# Altium footprint library Battery_Management.PcbLib: 6 footprints
Each footprint in its own frame and in the unit in brackets; x right, y up, seen from the top. Pads: shape width x height; smd on the part's side, far side on the other; paste and mask are expansions set on the pad; w line width, h text height; cw(c..) or ccw(c..) is an arc to the next point about the centre after c.
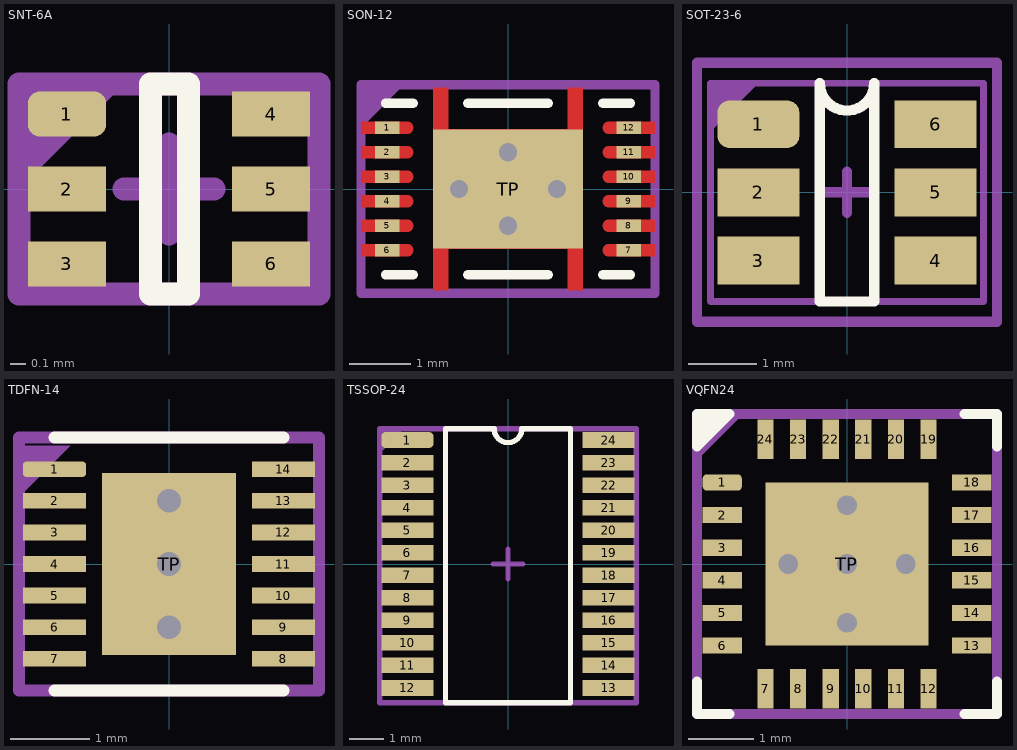
[diagram p0: the footprints below, top view; thin cyan lines are the x and y axes]

## SNT-6A [mm]
pads (6):
  rrect50% 0.52x0.3 smd mask+0.05: 1(-0.68,0.5)
  rect 0.52x0.3 smd mask+0.05: 2(-0.68,0) 3(-0.68,-0.5) 4(0.68,0.5) 5(0.68,0) 6(0.68,-0.5)
Top Overlay:
  lines w0.153: -0.124,-0.7 -0.124,0.7 0.13,0.7 0.13,-0.7 -0.124,-0.7
Top Assembly:
  region: -1,0.7 -0.3,0.7 -1,0
  lines w0.1: -1,-0.7 -1,0.7 1,0.7 1,-0.7 -1,-0.7
  text "'.Designator'" at -4.532,-0.333 h0.8
Top Courtyard (Mech6):
  lines w0.153: -0.3,0 0.3,0 ; 0,-0.3 0,0.3 ; -1,-0.7 -1,0.7 1,0.7 1,-0.7 -1,-0.7
3D body "User Library-VMT6.STEP": height 0.53, standoff -0.02, extent -0.6,-0.6 0.6,0.6

## SON-12 [mm]
pads (13):
  rect 0.4x0.2 smd paste-1 mask+0: 1(-1.975,1) 2(-1.975,0.6) 3(-1.975,0.2) 4(-1.975,-0.2) 5(-1.975,-0.6) 6(-1.975,-1) 7(1.975,-1) 8(1.975,-0.6) 9(1.975,-0.2) 10(1.975,0.2) 11(1.975,0.6) 12(1.975,1)
  rect 2.45x1.95 smd paste-2 mask+0: TP(0,0)
via 0,0.6 diameter 0.65 hole 0.3
via 0.8,0 diameter 0.65 hole 0.3
via 0,-0.6 diameter 0.65 hole 0.3
via -0.8,0 diameter 0.65 hole 0.3
Top Layer:
  region: -1.645,-0.5 -1.64,-0.501 -1.634,-0.501 -1.629,-0.502 -1.624,-0.503 -1.619,-0.505 -1.614,-0.507 -1.609,-0.509 -1.605,-0.511 -1.6,-0.513 -1.596,-0.516 -1.591,-0.519 -1.587,-0.522 -1.583,-0.526 -1.579,-0.529 -1.576,-0.533 -1.572,-0.537 -1.569,-0.541 -1.566,-0.546 -1.563,-0.55 -1.561,-0.555 -1.559,-0.559 -1.557,-0.564 -1.555,-0.569 -1.553,-0.574 -1.552,-0.579 -1.551,-0.584 -1.551,-0.59 -1.55,-0.595 -1.55,-0.6 -1.55,-0.605 -1.551,-0.61 -1.551,-0.616 -1.552,-0.621 -1.553,-0.626 -1.555,-0.631 -1.557,-0.636 -1.559,-0.641 -1.561,-0.645 -1.563,-0.65 -1.566,-0.654 -1.569,-0.659 -1.572,-0.663 -1.576,-0.667 -1.579,-0.671 -1.583,-0.674 -1.587,-0.678 -1.591,-0.681 -1.596,-0.684 -1.6,-0.687 -1.605,-0.689 -1.609,-0.691 -1.614,-0.693 -1.619,-0.695 -1.624,-0.697 -1.629,-0.698 -1.634,-0.699 -1.64,-0.699 -1.645,-0.7 -1.65,-0.7 -2.4,-0.7 -2.4,-0.5 -1.65,-0.5
  region: 1.225,-1.65 0.975,-1.65 0.975,-0.975 -0.975,-0.975 -0.975,-1.65 -1.225,-1.65 -1.225,1.65 -0.975,1.65 -0.975,0.975 0.975,0.975 0.975,1.65 1.225,1.65
  region: -1.645,1.1 -1.64,1.099 -1.634,1.099 -1.629,1.098 -1.624,1.097 -1.619,1.095 -1.614,1.093 -1.609,1.091 -1.605,1.089 -1.6,1.087 -1.596,1.084 -1.591,1.081 -1.587,1.078 -1.583,1.074 -1.579,1.071 -1.576,1.067 -1.572,1.063 -1.569,1.059 -1.566,1.054 -1.563,1.05 -1.561,1.045 -1.559,1.041 -1.557,1.036 -1.555,1.031 -1.553,1.026 -1.552,1.021 -1.551,1.016 -1.551,1.01 -1.55,1.005 -1.55,1 -1.55,0.995 -1.551,0.99 -1.551,0.984 -1.552,0.979 -1.553,0.974 -1.555,0.969 -1.557,0.964 -1.559,0.959 -1.561,0.955 -1.563,0.95 -1.566,0.946 -1.569,0.941 -1.572,0.937 -1.576,0.933 -1.579,0.929 -1.583,0.926 -1.587,0.922 -1.591,0.919 -1.596,0.916 -1.6,0.913 -1.605,0.911 -1.609,0.909 -1.614,0.907 -1.619,0.905 -1.624,0.903 -1.629,0.902 -1.634,0.901 -1.64,0.901 -1.645,0.9 -1.65,0.9 -2.4,0.9 -2.4,1.1 -1.65,1.1
  region: -1.645,0.7 -1.64,0.699 -1.634,0.699 -1.629,0.698 -1.624,0.697 -1.619,0.695 -1.614,0.693 -1.609,0.691 -1.605,0.689 -1.6,0.687 -1.596,0.684 -1.591,0.681 -1.587,0.678 -1.583,0.674 -1.579,0.671 -1.576,0.667 -1.572,0.663 -1.569,0.659 -1.566,0.654 -1.563,0.65 -1.561,0.645 -1.559,0.641 -1.557,0.636 -1.555,0.631 -1.553,0.626 -1.552,0.621 -1.551,0.616 -1.551,0.61 -1.55,0.605 -1.55,0.6 -1.55,0.595 -1.551,0.59 -1.551,0.584 -1.552,0.579 -1.553,0.574 -1.555,0.569 -1.557,0.564 -1.559,0.559 -1.561,0.555 -1.563,0.55 -1.566,0.546 -1.569,0.541 -1.572,0.537 -1.576,0.533 -1.579,0.529 -1.583,0.526 -1.587,0.522 -1.591,0.519 -1.596,0.516 -1.6,0.513 -1.605,0.511 -1.609,0.509 -1.614,0.507 -1.619,0.505 -1.624,0.503 -1.629,0.502 -1.634,0.501 -1.64,0.501 -1.645,0.5 -1.65,0.5 -2.4,0.5 -2.4,0.7 -1.65,0.7
  region: -1.645,0.3 -1.64,0.299 -1.634,0.299 -1.629,0.298 -1.624,0.297 -1.619,0.295 -1.614,0.293 -1.609,0.291 -1.605,0.289 -1.6,0.287 -1.596,0.284 -1.591,0.281 -1.587,0.278 -1.583,0.274 -1.579,0.271 -1.576,0.267 -1.572,0.263 -1.569,0.259 -1.566,0.254 -1.563,0.25 -1.561,0.245 -1.559,0.241 -1.557,0.236 -1.555,0.231 -1.553,0.226 -1.552,0.221 -1.551,0.216 -1.551,0.21 -1.55,0.205 -1.55,0.2 -1.55,0.195 -1.551,0.19 -1.551,0.184 -1.552,0.179 -1.553,0.174 -1.555,0.169 -1.557,0.164 -1.559,0.159 -1.561,0.155 -1.563,0.15 -1.566,0.146 -1.569,0.141 -1.572,0.137 -1.576,0.133 -1.579,0.129 -1.583,0.126 -1.587,0.122 -1.591,0.119 -1.596,0.116 -1.6,0.113 -1.605,0.111 -1.609,0.109 -1.614,0.107 -1.619,0.105 -1.624,0.103 -1.629,0.102 -1.634,0.101 -1.64,0.101 -1.645,0.1 -1.65,0.1 -2.4,0.1 -2.4,0.3 -1.65,0.3
  region: -1.645,-0.1 -1.64,-0.101 -1.634,-0.101 -1.629,-0.102 -1.624,-0.103 -1.619,-0.105 -1.614,-0.107 -1.609,-0.109 -1.605,-0.111 -1.6,-0.113 -1.596,-0.116 -1.591,-0.119 -1.587,-0.122 -1.583,-0.126 -1.579,-0.129 -1.576,-0.133 -1.572,-0.137 -1.569,-0.141 -1.566,-0.146 -1.563,-0.15 -1.561,-0.155 -1.559,-0.159 -1.557,-0.164 -1.555,-0.169 -1.553,-0.174 -1.552,-0.179 -1.551,-0.184 -1.551,-0.19 -1.55,-0.195 -1.55,-0.2 -1.55,-0.205 -1.551,-0.21 -1.551,-0.216 -1.552,-0.221 -1.553,-0.226 -1.555,-0.231 -1.557,-0.236 -1.559,-0.241 -1.561,-0.245 -1.563,-0.25 -1.566,-0.254 -1.569,-0.259 -1.572,-0.263 -1.576,-0.267 -1.579,-0.271 -1.583,-0.274 -1.587,-0.278 -1.591,-0.281 -1.596,-0.284 -1.6,-0.287 -1.605,-0.289 -1.609,-0.291 -1.614,-0.293 -1.619,-0.295 -1.624,-0.297 -1.629,-0.298 -1.634,-0.299 -1.64,-0.299 -1.645,-0.3 -1.65,-0.3 -2.4,-0.3 -2.4,-0.1 -1.65,-0.1
  region: -1.645,-0.9 -1.64,-0.901 -1.634,-0.901 -1.629,-0.902 -1.624,-0.903 -1.619,-0.905 -1.614,-0.907 -1.609,-0.909 -1.605,-0.911 -1.6,-0.913 -1.596,-0.916 -1.591,-0.919 -1.587,-0.922 -1.583,-0.926 -1.579,-0.929 -1.576,-0.933 -1.572,-0.937 -1.569,-0.941 -1.566,-0.946 -1.563,-0.95 -1.561,-0.955 -1.559,-0.959 -1.557,-0.964 -1.555,-0.969 -1.553,-0.974 -1.552,-0.979 -1.551,-0.984 -1.551,-0.99 -1.55,-0.995 -1.55,-1 -1.55,-1.005 -1.551,-1.01 -1.551,-1.016 -1.552,-1.021 -1.553,-1.026 -1.555,-1.031 -1.557,-1.036 -1.559,-1.041 -1.561,-1.045 -1.563,-1.05 -1.566,-1.054 -1.569,-1.059 -1.572,-1.063 -1.576,-1.067 -1.579,-1.071 -1.583,-1.074 -1.587,-1.078 -1.591,-1.081 -1.596,-1.084 -1.6,-1.087 -1.605,-1.089 -1.609,-1.091 -1.614,-1.093 -1.619,-1.095 -1.624,-1.097 -1.629,-1.098 -1.634,-1.099 -1.64,-1.099 -1.645,-1.1 -1.65,-1.1 -2.4,-1.1 -2.4,-0.9 -1.65,-0.9
  region: 2.4,-1.1 1.65,-1.1 1.645,-1.1 1.64,-1.099 1.634,-1.099 1.629,-1.098 1.624,-1.097 1.619,-1.095 1.614,-1.093 1.609,-1.091 1.605,-1.089 1.6,-1.087 1.596,-1.084 1.591,-1.081 1.587,-1.078 1.583,-1.074 1.579,-1.071 1.576,-1.067 1.572,-1.063 1.569,-1.059 1.566,-1.054 1.563,-1.05 1.561,-1.045 1.559,-1.041 1.557,-1.036 1.555,-1.031 1.553,-1.026 1.552,-1.021 1.551,-1.016 1.551,-1.01 1.55,-1.005 1.55,-1 1.55,-0.995 1.551,-0.99 1.551,-0.984 1.552,-0.979 1.553,-0.974 1.555,-0.969 1.557,-0.964 1.559,-0.959 1.561,-0.955 1.563,-0.95 1.566,-0.946 1.569,-0.941 1.572,-0.937 1.576,-0.933 1.579,-0.929 1.583,-0.926 1.587,-0.922 1.591,-0.919 1.596,-0.916 1.6,-0.913 1.605,-0.911 1.609,-0.909 1.614,-0.907 1.619,-0.905 1.624,-0.903 1.629,-0.902 1.634,-0.901 1.64,-0.901 1.645,-0.9 1.65,-0.9 2.4,-0.9
  region: 2.4,-0.7 1.65,-0.7 1.645,-0.7 1.64,-0.699 1.634,-0.699 1.629,-0.698 1.624,-0.697 1.619,-0.695 1.614,-0.693 1.609,-0.691 1.605,-0.689 1.6,-0.687 1.596,-0.684 1.591,-0.681 1.587,-0.678 1.583,-0.674 1.579,-0.671 1.576,-0.667 1.572,-0.663 1.569,-0.659 1.566,-0.654 1.563,-0.65 1.561,-0.645 1.559,-0.641 1.557,-0.636 1.555,-0.631 1.553,-0.626 1.552,-0.621 1.551,-0.616 1.551,-0.61 1.55,-0.605 1.55,-0.6 1.55,-0.595 1.551,-0.59 1.551,-0.584 1.552,-0.579 1.553,-0.574 1.555,-0.569 1.557,-0.564 1.559,-0.559 1.561,-0.555 1.563,-0.55 1.566,-0.546 1.569,-0.541 1.572,-0.537 1.576,-0.533 1.579,-0.529 1.583,-0.526 1.587,-0.522 1.591,-0.519 1.596,-0.516 1.6,-0.513 1.605,-0.511 1.609,-0.509 1.614,-0.507 1.619,-0.505 1.624,-0.503 1.629,-0.502 1.634,-0.501 1.64,-0.501 1.645,-0.5 1.65,-0.5 2.4,-0.5
  region: 2.4,-0.3 1.65,-0.3 1.645,-0.3 1.64,-0.299 1.634,-0.299 1.629,-0.298 1.624,-0.297 1.619,-0.295 1.614,-0.293 1.609,-0.291 1.605,-0.289 1.6,-0.287 1.596,-0.284 1.591,-0.281 1.587,-0.278 1.583,-0.274 1.579,-0.271 1.576,-0.267 1.572,-0.263 1.569,-0.259 1.566,-0.254 1.563,-0.25 1.561,-0.245 1.559,-0.241 1.557,-0.236 1.555,-0.231 1.553,-0.226 1.552,-0.221 1.551,-0.216 1.551,-0.21 1.55,-0.205 1.55,-0.2 1.55,-0.195 1.551,-0.19 1.551,-0.184 1.552,-0.179 1.553,-0.174 1.555,-0.169 1.557,-0.164 1.559,-0.159 1.561,-0.155 1.563,-0.15 1.566,-0.146 1.569,-0.141 1.572,-0.137 1.576,-0.133 1.579,-0.129 1.583,-0.126 1.587,-0.122 1.591,-0.119 1.596,-0.116 1.6,-0.113 1.605,-0.111 1.609,-0.109 1.614,-0.107 1.619,-0.105 1.624,-0.103 1.629,-0.102 1.634,-0.101 1.64,-0.101 1.645,-0.1 1.65,-0.1 2.4,-0.1
  region: 2.4,0.1 1.65,0.1 1.645,0.1 1.64,0.101 1.634,0.101 1.629,0.102 1.624,0.103 1.619,0.105 1.614,0.107 1.609,0.109 1.605,0.111 1.6,0.113 1.596,0.116 1.591,0.119 1.587,0.122 1.583,0.126 1.579,0.129 1.576,0.133 1.572,0.137 1.569,0.141 1.566,0.146 1.563,0.15 1.561,0.155 1.559,0.159 1.557,0.164 1.555,0.169 1.553,0.174 1.552,0.179 1.551,0.184 1.551,0.19 1.55,0.195 1.55,0.2 1.55,0.205 1.551,0.21 1.551,0.216 1.552,0.221 1.553,0.226 1.555,0.231 1.557,0.236 1.559,0.241 1.561,0.245 1.563,0.25 1.566,0.254 1.569,0.259 1.572,0.263 1.576,0.267 1.579,0.271 1.583,0.274 1.587,0.278 1.591,0.281 1.596,0.284 1.6,0.287 1.605,0.289 1.609,0.291 1.614,0.293 1.619,0.295 1.624,0.297 1.629,0.298 1.634,0.299 1.64,0.299 1.645,0.3 1.65,0.3 2.4,0.3
  region: 2.4,0.5 1.65,0.5 1.645,0.5 1.64,0.501 1.634,0.501 1.629,0.502 1.624,0.503 1.619,0.505 1.614,0.507 1.609,0.509 1.605,0.511 1.6,0.513 1.596,0.516 1.591,0.519 1.587,0.522 1.583,0.526 1.579,0.529 1.576,0.533 1.572,0.537 1.569,0.541 1.566,0.546 1.563,0.55 1.561,0.555 1.559,0.559 1.557,0.564 1.555,0.569 1.553,0.574 1.552,0.579 1.551,0.584 1.551,0.59 1.55,0.595 1.55,0.6 1.55,0.605 1.551,0.61 1.551,0.616 1.552,0.621 1.553,0.626 1.555,0.631 1.557,0.636 1.559,0.641 1.561,0.645 1.563,0.65 1.566,0.654 1.569,0.659 1.572,0.663 1.576,0.667 1.579,0.671 1.583,0.674 1.587,0.678 1.591,0.681 1.596,0.684 1.6,0.687 1.605,0.689 1.609,0.691 1.614,0.693 1.619,0.695 1.624,0.697 1.629,0.698 1.634,0.699 1.64,0.699 1.645,0.7 1.65,0.7 2.4,0.7
  region: 2.4,0.9 1.65,0.9 1.645,0.9 1.64,0.901 1.634,0.901 1.629,0.902 1.624,0.903 1.619,0.905 1.614,0.907 1.609,0.909 1.605,0.911 1.6,0.913 1.596,0.916 1.591,0.919 1.587,0.922 1.583,0.926 1.579,0.929 1.576,0.933 1.572,0.937 1.569,0.941 1.566,0.946 1.563,0.95 1.561,0.955 1.559,0.959 1.557,0.964 1.555,0.969 1.553,0.974 1.552,0.979 1.551,0.984 1.551,0.99 1.55,0.995 1.55,1 1.55,1.005 1.551,1.01 1.551,1.016 1.552,1.021 1.553,1.026 1.555,1.031 1.557,1.036 1.559,1.041 1.561,1.045 1.563,1.05 1.566,1.054 1.569,1.059 1.572,1.063 1.576,1.067 1.579,1.071 1.583,1.074 1.587,1.078 1.591,1.081 1.596,1.084 1.6,1.087 1.605,1.089 1.609,1.091 1.614,1.093 1.619,1.095 1.624,1.097 1.629,1.098 1.634,1.099 1.64,1.099 1.645,1.1 1.65,1.1 2.4,1.1
Top Overlay:
  lines w0.153: -2,-1.4 -1.545,-1.4 ; -2,1.4 -1.545,1.4 ; -0.655,-1.4 0.655,-1.4 ; -0.655,1.4 0.655,1.4 ; 1.545,-1.4 2,-1.4 ; 1.545,1.4 2,1.4
Top Paste:
  drawing of 22 lines, arcs and shapes, not listed
Top Solder:
  drawing of 13 lines, arcs and shapes, not listed
Top Assembly:
  region: -2.4,1.7 -1.7,1.7 -2.4,1
  lines w0.1: -2.4,-1.7 2.4,-1.7 2.4,1.7 -2.4,1.7 -2.4,-1.7
  text "'.Designator'" at -4.532,-0.333 h0.8
Top Courtyard (Mech6):
  lines w0.153: -0.3,0 0.3,0 ; 0,-0.3 0,0.3 ; -2.4,-1.7 2.4,-1.7 2.4,1.7 -2.4,1.7 -2.4,-1.7
3D body "SON-12-2.step": height 1, standoff -0.05, extent -2.075,-1.3 2.075,1.3

## SOT-23-6 [mm]
pads (6):
  rrect50% 1.2x0.7 smd: 1(-1.3,1)
  rect 1.2x0.7 smd: 2(-1.3,0) 3(-1.3,-1) 4(1.3,-1) 5(1.3,0) 6(1.3,1)
Top Overlay:
  lines w0.153: -0.4,-1.6 -0.4,1.6 ccw(c0,1.6) 0.4,1.6 0.4,-1.6 -0.4,-1.6
Top Assembly:
  region: -2,1.6 -1.3,1.6 -2,0.9
  lines w0.1: -2,-1.6 2,-1.6 2,1.6 -2,1.6 -2,-1.6
  text "'.Designator'" at -4.532,-0.333 h0.8
Top Courtyard (Mech6):
  lines w0.153: -0.3,0 0.3,0 ; 0,-0.3 0,0.3 ; -2.2,-1.9 -2.2,1.9 2.2,1.9 2.2,-1.9 -2.2,-1.9
3D body "6-TSOP.step": height 1.11, standoff 0.01, extent -1.412,-1.55 1.412,1.55

## TDFN-14 [mm]
pads (15):
  rrect50% 0.8x0.2 smd mask+0.05: 1(-1.45,1.2)
  rect 0.8x0.2 smd mask+0.05: 2(-1.45,0.8) 3(-1.45,0.4) 4(-1.45,0) 5(-1.45,-0.4) 6(-1.45,-0.8) 7(-1.45,-1.2) 8(1.45,-1.2) 9(1.45,-0.8) 10(1.45,-0.4) 11(1.45,0) 12(1.45,0.4) 13(1.45,0.8) 14(1.45,1.2)
  rect 1.7x2.3 smd mask+0.05: TP(0,0)
via 0,0 diameter 0.65 hole 0.3
via 0,-0.8 diameter 0.65 hole 0.3
via 0,0.8 diameter 0.65 hole 0.3
Top Overlay:
  lines w0.153: -1.45,-1.6 1.45,-1.6 ; -1.45,1.6 1.45,1.6
Top Assembly:
  region: -1.9,1.5 -1.25,1.5 -1.9,0.85
  lines w0.1: -1.9,-1.6 -1.9,1.6 1.9,1.6 1.9,-1.6 -1.9,-1.6
  text "'.Designator'" at -4.532,-0.333 h0.8
Top Courtyard (Mech6):
  lines w0.153: -0.3,0 0.3,0 ; 0,-0.3 0,0.3 ; -1.9,-1.6 -1.9,1.6 1.9,1.6 1.9,-1.6 -1.9,-1.6
3D body "MAX17205G+.STEP": height 0.77, standoff -0.03, extent -1.5,-1.5 1.5,1.5

## TSSOP-24 [mm]
pads (24):
  rrect50% 1.5x0.45 smd mask+0.05: 1(-2.9,3.575)
  rect 1.5x0.45 smd mask+0.05: 2(-2.9,2.925) 3(-2.9,2.275) 4(-2.9,1.625) 5(-2.9,0.975) 6(-2.9,0.325) 7(-2.9,-0.325) 8(-2.9,-0.975) 9(-2.9,-1.625) 10(-2.9,-2.275) 11(-2.9,-2.925) 12(-2.9,-3.575) 13(2.9,-3.575) 14(2.9,-2.925) 15(2.9,-2.275) 16(2.9,-1.625) 17(2.9,-0.975) 18(2.9,-0.325) 19(2.9,0.325) 20(2.9,0.975) 21(2.9,1.625) 22(2.9,2.275) 23(2.9,2.925) 24(2.9,3.575)
Top Overlay:
  lines w0.153: -1.8,-4 1.8,-4 1.8,3.9 0.4,3.9 cw(c0,3.9) -0.4,3.9 -1.8,3.9 -1.8,-4
Top Assembly:
  region: -3.7,3.9 -3,3.9 -3.7,3.2
  lines w0.1: -3.7,-4 -3.7,3.9 3.7,3.9 3.7,-4 -3.7,-4
  text "'.Designator'" at -4.532,-0.333 h0.8
Top Courtyard (Mech6):
  lines w0.153: -0.425,0 0.425,0 ; 0,-0.425 0,0.425 ; -3.7,-4 3.7,-4 3.7,3.9 -3.7,3.9 -3.7,-4
3D body "User Library-TSSOP24_(JEDEC_MO-153).STEP": height 1.2, standoff 0, extent -3.278,-3.975 3.278,3.925

## VQFN24 [mm]
pads (25):
  rrect50% 0.6x0.25 smd mask+0.05: 1(-1.912,1.25)
  rect 0.6x0.25 smd mask+0.05: 2(-1.912,0.75) 3(-1.912,0.25) 4(-1.912,-0.25) 5(-1.912,-0.75) 6(-1.912,-1.25) 13(1.912,-1.25) 14(1.912,-0.75) 15(1.912,-0.25) 16(1.912,0.25) 17(1.912,0.75) 18(1.912,1.25)
  rect 0.25x0.6 smd mask+0.05: 7(-1.25,-1.912) 8(-0.75,-1.912) 9(-0.25,-1.912) 10(0.25,-1.912) 11(0.75,-1.912) 12(1.25,-1.912) 19(1.25,1.913) 20(0.75,1.913) 21(0.25,1.913) 22(-0.25,1.913) 23(-0.75,1.913) 24(-1.25,1.913)
  rect 2.5x2.5 smd mask+0.05: TP(0,0)
via -0.9,0 diameter 0.65 hole 0.3
via 0,0.9 diameter 0.65 hole 0.3
via 0.9,0 diameter 0.65 hole 0.3
via 0,0 diameter 0.65 hole 0.3
via 0,-0.9 diameter 0.65 hole 0.3
Top Overlay:
  region: -2.3,2.3 -2.3,1.8 -1.8,2.3
  lines w0.153: -2.3,-1.8 -2.3,-2.3 -1.8,-2.3 ; 1.8,-2.3 2.3,-2.3 2.3,-1.8 ; 1.8,2.3 2.3,2.3 2.3,1.8 ; -2.3,1.8 -2.3,2.3 -1.8,2.3 -2.3,1.8
Top Assembly:
  region: -2.3,2.3 -1.6,2.3 -2.3,1.6
  lines w0.1: -2.3,-2.3 -2.3,2.3 2.3,2.3 2.3,-2.3 -2.3,-2.3
  text "'.Designator'" at -4.532,-0.333 h0.8
Top Courtyard (Mech6):
  lines w0.153: -0.3,0 0.3,0 ; 0,-0.3 0,0.3 ; -2.3,-2.3 -2.3,2.3 2.3,2.3 2.3,-2.3 -2.3,-2.3
3D body "VQFN-24.step": height 1.06, standoff -0.01, extent -2.05,-2.05 2.05,2.05